# EAGLE library part SX70-FLASH-EDGE8-MALE-LONG (library _openSX70)
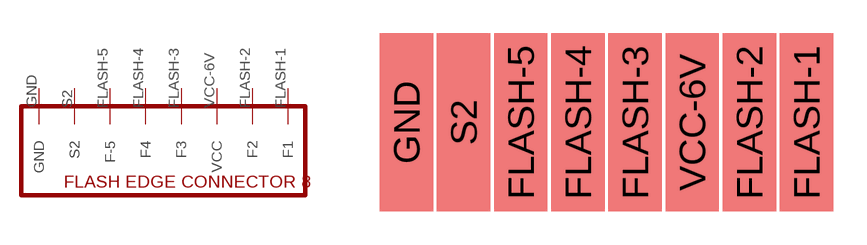
[diagram p30: symbol with the pads of SX70-FLASH-EDGE8-2; footprint SX70-FLASH-EDGE8-2]

Designator prefix -

## SX70-FLASH-EDGE8-MALE-LONG  [SX70-FLASH-EDGE8-2]
FLASH-1  F1
FLASH-2  F2
FLASH-3  F3
FLASH-4  F4
FLASH-5  F-5
GND  GND
S2  S2
VCC-6V  VCC

## Footprint SX70-FLASH-EDGE8-2 (pad centres in mm)
smd 2.4 x 8: FLASH-1 8.99,7.5; FLASH-2 6.42,7.5; FLASH-3 1.28,7.5; FLASH-4 -1.29,7.5; FLASH-5 -3.86,7.5; GND -9,7.5; S2 -6.43,7.5; VCC-6V 3.85,7.5